# EAGLE library part ARD_POWER (library EnigmaMon)
Arduino Power Pins Pin-header for Arduino power connections.
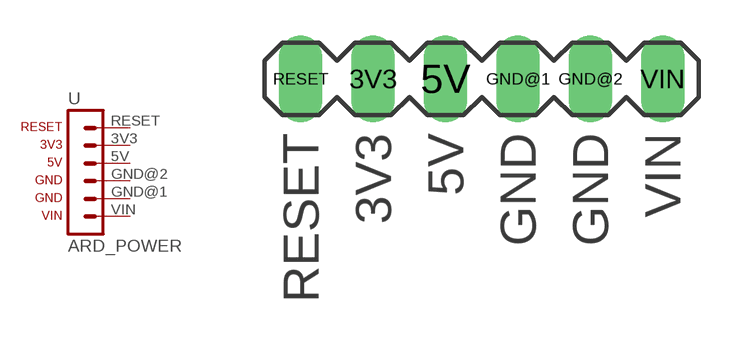
[diagram p3: symbol with the pads of ARD_POWER; footprint ARD_POWER]

Designator prefix -

## ARD_POWER  [ARD_POWER]
3V3  3V3  pas
5V  5V  pas
GND@1  GND  pas
GND@2  GND  pas
RESET  RESET  pas
VIN  VIN  pas

## Footprint ARD_POWER (pad centres in mm)
drill 1.016 long: 3V3 -3.81,0; 5V -1.27,0; GND@1 1.27,0; GND@2 3.81,0; RESET -6.35,0; VIN 6.35,0